# Altium integrated library Linear Technology Power Management Switching Regulator LTC1174-LTC3901.IntLib: 2647 symbols (part 62 of 364)
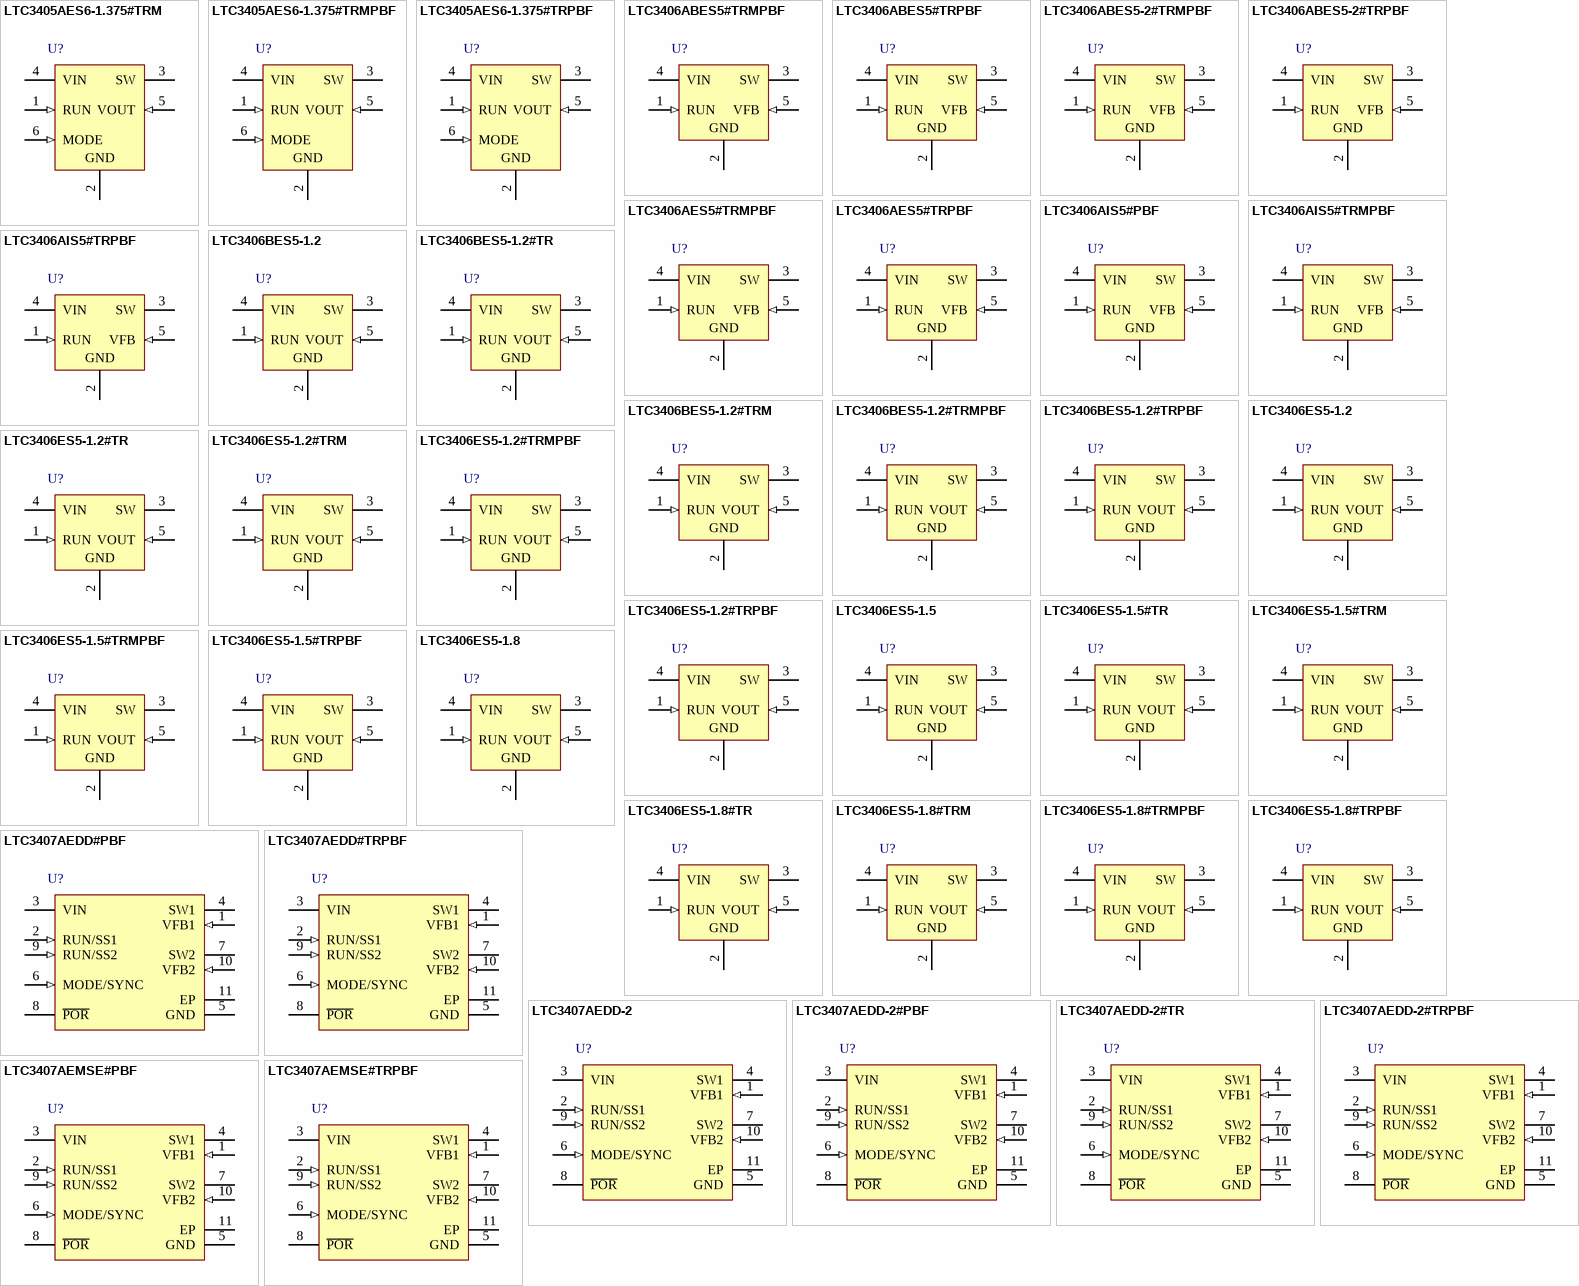
[diagram p147: symbols LTC3405AES6-1.375#TRM to LTC3407AEMSE#TRPBF]

## LTC3407AEDD-2
designator U?
Dual Synchronous 800 mA, 2.25 MHz Step-Down DC/DC Regulator, 10-pin SON (DD-10), -40 to 85 degC; Manufacturer: Linear Technology; PartNumber: LTC3407AEDD-2; Number of Outputs: 2; PackageVersion: Rev. C, 06/2010; PackageReference: DD-10; PackageDescription: 10-Pin Plastic DFN, Body 3 x 3 mm, Pitch 0.5 mm; RoHS: FALSE; Mounting Technology: Surface Mount; Code_JEDEC: MO-229; ComponentLink1Description: Manufacturer URL; ComponentLink1URL: http://www.linear.com/; ComponentLink2Description: Datasheet; ComponentLink2URL: http://cds.linear.com/docs/en/datasheet/3407a2f.pdf; ComponentLink3Description: Package Specification; ComponentLink3URL: http://cds.linear.com/docs/en/packaging/DFN_10_05-08-1699.pdf
footprint LT-DD-10_V (SON, 10-Leads, Body 3x3mm, Pitch 0.5mm, Thermal Pad 2.38x1.65mm)
pins: 1 VFB1 (in) "Output Feedback. Receives the feedback voltage from the external resistive divider across the output. Nominal voltage for this pin is 0.6V.", 2 RUN/SS1 (in) "Regulator 1 Enable and Soft-Start Input. Forcing this pin to VIN enables regulator 1, while forcing it to GND causes regulator 1 to shut down. Connect external RC-network with desired time-constant to enable softstart (See Datasheet)", 3 VIN (power) "Main Power Supply. Must be closely decoupled to GND.", 4 SW1 (power) "Regulator 1 Switch Node Connection to the Inductor. This pin swings from VIN to GND", 5 GND (power) "Main Ground. Connect to the (-) terminal of COUT, and (-) terminal of CIN.", 6 MODE/SYNC (in) "Combination Mode Selection and Oscillator Synchronization. This pin controls the operation of the device. When tied to VIN or GND, Burst Mode operation or pulse skipping mode is selected, respectively. Do not float this pin. (See Datasheet)", 7 SW2 (power) "Regulator 2 Switch Node Connection to the Inductor. This pin swings from VIN to GND.", 8 ~{POR} (oc) "Power-On Reset. This common-drain logic output is pulled to GND when the output voltage is not within +/-8.5% of regulation and goes high after 2^16 clock cycles when both channels are within regulation.", 9 RUN/SS2 (in) "Regulator 2 Enable and Soft-Start Input. Forcing this pin to VIN enables regulator 2, while forcing it to GND causes regulator 2 to shut down. Connect external RC-Network with desired time-constant to enable softstart (See Datasheet)", 10 VFB2 (in) "Output Feedback. Receives the feedback voltage from the external resistive divider across the output. Nominal voltage for this pin is 0.6V.", 11 EP (power) "Power Ground. Connect to the (-) terminal of COUT, and (-) terminal of CIN. Must be soldered to electrical ground on PCB."

## LTC3407AEDD-2#PBF
designator U?
Dual Synchronous 800 mA, 2.25 MHz Step-Down DC/DC Regulator, 10-pin SON (DD-10), -40 to 85 degC, Pb-Free; Manufacturer: Linear Technology; PartNumber: LTC3407AEDD-2#PBF; Number of Outputs: 2; PackageVersion: Rev. C, 06/2010; PackageReference: DD-10; PackageDescription: 10-Pin Plastic DFN, Body 3 x 3 mm, Pitch 0.5 mm; Supplier 1: Digi-Key; Supplier Part Number 1: LTC3407AEDD-2#PBF-ND; Supplier 2: Farnell; Supplier Part Number 2: 2295029; Supplier 3: Newark; Supplier Part Number 3: 56M7577; RoHS: TRUE; Mounting Technology: Surface Mount; Code_JEDEC: MO-229; ComponentLink1Description: Manufacturer URL; ComponentLink1URL: http://www.linear.com/; ComponentLink2Description: Datasheet; ComponentLink2URL: http://cds.linear.com/docs/en/datasheet/3407a2f.pdf; ComponentLink3Description: Package Specification; ComponentLink3URL: http://cds.linear.com/docs/en/packaging/DFN_10_05-08-1699.pdf
footprint LT-DD-10_V (SON, 10-Leads, Body 3x3mm, Pitch 0.5mm, Thermal Pad 2.38x1.65mm)
pins: 1 VFB1 (in) "Output Feedback. Receives the feedback voltage from the external resistive divider across the output. Nominal voltage for this pin is 0.6V.", 2 RUN/SS1 (in) "Regulator 1 Enable and Soft-Start Input. Forcing this pin to VIN enables regulator 1, while forcing it to GND causes regulator 1 to shut down. Connect external RC-network with desired time-constant to enable softstart (See Datasheet)", 3 VIN (power) "Main Power Supply. Must be closely decoupled to GND.", 4 SW1 (power) "Regulator 1 Switch Node Connection to the Inductor. This pin swings from VIN to GND", 5 GND (power) "Main Ground. Connect to the (-) terminal of COUT, and (-) terminal of CIN.", 6 MODE/SYNC (in) "Combination Mode Selection and Oscillator Synchronization. This pin controls the operation of the device. When tied to VIN or GND, Burst Mode operation or pulse skipping mode is selected, respectively. Do not float this pin. (See Datasheet)", 7 SW2 (power) "Regulator 2 Switch Node Connection to the Inductor. This pin swings from VIN to GND.", 8 ~{POR} (oc) "Power-On Reset. This common-drain logic output is pulled to GND when the output voltage is not within +/-8.5% of regulation and goes high after 2^16 clock cycles when both channels are within regulation.", 9 RUN/SS2 (in) "Regulator 2 Enable and Soft-Start Input. Forcing this pin to VIN enables regulator 2, while forcing it to GND causes regulator 2 to shut down. Connect external RC-Network with desired time-constant to enable softstart (See Datasheet)", 10 VFB2 (in) "Output Feedback. Receives the feedback voltage from the external resistive divider across the output. Nominal voltage for this pin is 0.6V.", 11 EP (power) "Power Ground. Connect to the (-) terminal of COUT, and (-) terminal of CIN. Must be soldered to electrical ground on PCB."

## LTC3407AEDD-2#TR
designator U?
Dual Synchronous 800 mA, 2.25 MHz Step-Down DC/DC Regulator, 10-pin SON (DD-10), -40 to 85 degC, Tape and Reel; Manufacturer: Linear Technology; PartNumber: LTC3407AEDD-2#TR; Number of Outputs: 2; PackageVersion: Rev. C, 06/2010; PackageReference: DD-10; PackageDescription: 10-Pin Plastic DFN, Body 3 x 3 mm, Pitch 0.5 mm; Packing: Tape and Reel; RoHS: FALSE; Mounting Technology: Surface Mount; Code_JEDEC: MO-229; ComponentLink1Description: Manufacturer URL; ComponentLink1URL: http://www.linear.com/; ComponentLink2Description: Datasheet; ComponentLink2URL: http://cds.linear.com/docs/en/datasheet/3407a2f.pdf; ComponentLink3Description: Package Specification; ComponentLink3URL: http://cds.linear.com/docs/en/packaging/DFN_10_05-08-1699.pdf
footprint LT-DD-10_V (SON, 10-Leads, Body 3x3mm, Pitch 0.5mm, Thermal Pad 2.38x1.65mm)
pins: 1 VFB1 (in) "Output Feedback. Receives the feedback voltage from the external resistive divider across the output. Nominal voltage for this pin is 0.6V.", 2 RUN/SS1 (in) "Regulator 1 Enable and Soft-Start Input. Forcing this pin to VIN enables regulator 1, while forcing it to GND causes regulator 1 to shut down. Connect external RC-network with desired time-constant to enable softstart (See Datasheet)", 3 VIN (power) "Main Power Supply. Must be closely decoupled to GND.", 4 SW1 (power) "Regulator 1 Switch Node Connection to the Inductor. This pin swings from VIN to GND", 5 GND (power) "Main Ground. Connect to the (-) terminal of COUT, and (-) terminal of CIN.", 6 MODE/SYNC (in) "Combination Mode Selection and Oscillator Synchronization. This pin controls the operation of the device. When tied to VIN or GND, Burst Mode operation or pulse skipping mode is selected, respectively. Do not float this pin. (See Datasheet)", 7 SW2 (power) "Regulator 2 Switch Node Connection to the Inductor. This pin swings from VIN to GND.", 8 ~{POR} (oc) "Power-On Reset. This common-drain logic output is pulled to GND when the output voltage is not within +/-8.5% of regulation and goes high after 2^16 clock cycles when both channels are within regulation.", 9 RUN/SS2 (in) "Regulator 2 Enable and Soft-Start Input. Forcing this pin to VIN enables regulator 2, while forcing it to GND causes regulator 2 to shut down. Connect external RC-Network with desired time-constant to enable softstart (See Datasheet)", 10 VFB2 (in) "Output Feedback. Receives the feedback voltage from the external resistive divider across the output. Nominal voltage for this pin is 0.6V.", 11 EP (power) "Power Ground. Connect to the (-) terminal of COUT, and (-) terminal of CIN. Must be soldered to electrical ground on PCB."

## LTC3407AEDD-2#TRPBF
designator U?
Dual Synchronous 800 mA, 2.25 MHz Step-Down DC/DC Regulator, 10-pin SON (DD-10), -40 to 85 degC, Pb-Free, Tape and Reel; Manufacturer: Linear Technology; PartNumber: LTC3407AEDD-2#TRPBF; Number of Outputs: 2; PackageVersion: Rev. C, 06/2010; PackageReference: DD-10; PackageDescription: 10-Pin Plastic DFN, Body 3 x 3 mm, Pitch 0.5 mm; Supplier 1: Digi-Key; Supplier Part Number 1: LTC3407AEDD-2#TRPBF-ND; Packing: Tape and Reel; RoHS: TRUE; Mounting Technology: Surface Mount; Code_JEDEC: MO-229; ComponentLink1Description: Manufacturer URL; ComponentLink1URL: http://www.linear.com/; ComponentLink2Description: Datasheet; ComponentLink2URL: http://cds.linear.com/docs/en/datasheet/3407a2f.pdf; ComponentLink3Description: Package Specification; ComponentLink3URL: http://cds.linear.com/docs/en/packaging/DFN_10_05-08-1699.pdf
footprint LT-DD-10_V (SON, 10-Leads, Body 3x3mm, Pitch 0.5mm, Thermal Pad 2.38x1.65mm)
pins: 1 VFB1 (in) "Output Feedback. Receives the feedback voltage from the external resistive divider across the output. Nominal voltage for this pin is 0.6V.", 2 RUN/SS1 (in) "Regulator 1 Enable and Soft-Start Input. Forcing this pin to VIN enables regulator 1, while forcing it to GND causes regulator 1 to shut down. Connect external RC-network with desired time-constant to enable softstart (See Datasheet)", 3 VIN (power) "Main Power Supply. Must be closely decoupled to GND.", 4 SW1 (power) "Regulator 1 Switch Node Connection to the Inductor. This pin swings from VIN to GND", 5 GND (power) "Main Ground. Connect to the (-) terminal of COUT, and (-) terminal of CIN.", 6 MODE/SYNC (in) "Combination Mode Selection and Oscillator Synchronization. This pin controls the operation of the device. When tied to VIN or GND, Burst Mode operation or pulse skipping mode is selected, respectively. Do not float this pin. (See Datasheet)", 7 SW2 (power) "Regulator 2 Switch Node Connection to the Inductor. This pin swings from VIN to GND.", 8 ~{POR} (oc) "Power-On Reset. This common-drain logic output is pulled to GND when the output voltage is not within +/-8.5% of regulation and goes high after 2^16 clock cycles when both channels are within regulation.", 9 RUN/SS2 (in) "Regulator 2 Enable and Soft-Start Input. Forcing this pin to VIN enables regulator 2, while forcing it to GND causes regulator 2 to shut down. Connect external RC-Network with desired time-constant to enable softstart (See Datasheet)", 10 VFB2 (in) "Output Feedback. Receives the feedback voltage from the external resistive divider across the output. Nominal voltage for this pin is 0.6V.", 11 EP (power) "Power Ground. Connect to the (-) terminal of COUT, and (-) terminal of CIN. Must be soldered to electrical ground on PCB."

## LTC3407AEMSE#PBF
designator U?
Dual Synchronous 600 mA, 1.5 MHz Step-Down DC/DC Regulator, 10-pin SOP (MSE-10-EDP), -40 to 85 degC, Pb-Free; Manufacturer: Linear Technology; PartNumber: LTC3407AEMSE#PBF; Frequency Sync Range: 1.5MHz; Number of Outputs: 2; DatasheetVersion: Rev. A; PackageVersion: Rev. C, 08/2009; PackageReference: MSE-10; PackageDescription: 10-Pin Plastic MSOP, Exposed Die Pad, Body 3 x 3 mm, Pitch 0.5 mm; Supplier 1: Digi-Key; Supplier Part Number 1: LTC3407AEMSE#PBF-ND; Supplier 2: Farnell; Supplier Part Number 2: 2295030; Supplier 3: Newark; Supplier Part Number 3: 56M7586; RoHS: TRUE; Mounting Technology: Surface Mount; ComponentLink1Description: Manufacturer URL; ComponentLink1URL: http://www.linear.com/; ComponentLink2Description: Datasheet; ComponentLink2URL: http://cds.linear.com/docs/en/datasheet/3407Afa.pdf; ComponentLink3Description: Package Specification; ComponentLink3URL: http://cds.linear.com/docs/en/datasheet/3481fc.pdf
footprint LT-MSE-10-EDP-2060x1830TP_N (SOP, 10-Leads, Body 3.1x3.1mm, Pitch 0.5mm, Thermal Pad 2.17x1.94mm, IPC Medium Density)
footprint LT-MSE-10-EDP-2060x1830TP_L (SOP, 10-Leads, Body 3.1x3.1mm, Pitch 0.5mm, Thermal Pad 2.17x1.94mm, IPC High Density)
footprint LT-MSE-10-EDP-2060x1830TP_M (SOP, 10-Leads, Body 3.1x3.1mm, Pitch 0.5mm, Thermal Pad 2.17x1.94mm, IPC Low Density)
pins: 1 VFB1 (in) "Output Feedback. Receives the feedback voltage from the external resistive divider across the output. Nominal voltage for this pin is 0.6V.", 2 RUN/SS1 (in) "Regulator 1 Enable and Soft-Start Input. Forcing this pin to VIN enables regulator 1, while forcing it to GND causes regulator 1 to shut down. Connect external RC-network with desired time-constant to enable softstart (See Datasheet)", 3 VIN (power) "Main Power Supply. Must be closely decoupled to GND.", 4 SW1 (power) "Regulator 1 Switch Node Connection to the Inductor. This pin swings from VIN to GND", 5 GND (power) "Main Ground. Connect to the (-) terminal of COUT, and (-) terminal of CIN.", 6 MODE/SYNC (in) "Combination Mode Selection and Oscillator Synchronization. This pin controls the operation of the device. When tied to VIN or GND, Burst Mode operation or pulse skipping mode is selected, respectively. Do not float this pin. (See Datasheet)", 7 SW2 (power) "Regulator 2 Switch Node Connection to the Inductor. This pin swings from VIN to GND.", 8 ~{POR} (oc) "Power-On Reset. This common-drain logic output is pulled to GND when the output voltage is not within +/-8.5% of regulation and goes high after 2^16 clock cycles when both channels are within regulation.", 9 RUN/SS2 (in) "Regulator 2 Enable and Soft-Start Input. Forcing this pin to VIN enables regulator 2, while forcing it to GND causes regulator 2 to shut down. Connect external RC-Network with desired time-constant to enable softstart (See Datasheet)", 10 VFB2 (in) "Output Feedback. Receives the feedback voltage from the external resistive divider across the output. Nominal voltage for this pin is 0.6V.", 11 EP (power) "Power Ground. Connect to the (-) terminal of COUT, and (-) terminal of CIN. Must be soldered to electrical ground on PCB."

## LTC3407AEMSE#TRPBF
designator U?
Dual Synchronous 600 mA, 1.5 MHz Step-Down DC/DC Regulator, 10-pin SOP (MSE-10-EDP), -40 to 85 degC, Pb-Free, Tape and Reel; Manufacturer: Linear Technology; PartNumber: LTC3407AEMSE#TRPBF; Frequency Sync Range: 1.5MHz; Number of Outputs: 2; DatasheetVersion: Rev. A; PackageVersion: Rev. C, 08/2009; PackageReference: MSE-10; PackageDescription: 10-Pin Plastic MSOP, Exposed Die Pad, Body 3 x 3 mm, Pitch 0.5 mm; Supplier 1: Digi-Key; Supplier Part Number 1: LTC3407AEMSE#TRPBF-ND; Packing: Tape and Reel; RoHS: TRUE; Mounting Technology: Surface Mount; ComponentLink1Description: Manufacturer URL; ComponentLink1URL: http://www.linear.com/; ComponentLink2Description: Datasheet; ComponentLink2URL: http://cds.linear.com/docs/en/datasheet/3407Afa.pdf; ComponentLink3Description: Package Specification; ComponentLink3URL: http://cds.linear.com/docs/en/datasheet/3481fc.pdf
footprint LT-MSE-10-EDP-2060x1830TP_N (SOP, 10-Leads, Body 3.1x3.1mm, Pitch 0.5mm, Thermal Pad 2.17x1.94mm, IPC Medium Density)
footprint LT-MSE-10-EDP-2060x1830TP_L (SOP, 10-Leads, Body 3.1x3.1mm, Pitch 0.5mm, Thermal Pad 2.17x1.94mm, IPC High Density)
footprint LT-MSE-10-EDP-2060x1830TP_M (SOP, 10-Leads, Body 3.1x3.1mm, Pitch 0.5mm, Thermal Pad 2.17x1.94mm, IPC Low Density)
pins: 1 VFB1 (in) "Output Feedback. Receives the feedback voltage from the external resistive divider across the output. Nominal voltage for this pin is 0.6V.", 2 RUN/SS1 (in) "Regulator 1 Enable and Soft-Start Input. Forcing this pin to VIN enables regulator 1, while forcing it to GND causes regulator 1 to shut down. Connect external RC-network with desired time-constant to enable softstart (See Datasheet)", 3 VIN (power) "Main Power Supply. Must be closely decoupled to GND.", 4 SW1 (power) "Regulator 1 Switch Node Connection to the Inductor. This pin swings from VIN to GND", 5 GND (power) "Main Ground. Connect to the (-) terminal of COUT, and (-) terminal of CIN.", 6 MODE/SYNC (in) "Combination Mode Selection and Oscillator Synchronization. This pin controls the operation of the device. When tied to VIN or GND, Burst Mode operation or pulse skipping mode is selected, respectively. Do not float this pin. (See Datasheet)", 7 SW2 (power) "Regulator 2 Switch Node Connection to the Inductor. This pin swings from VIN to GND.", 8 ~{POR} (oc) "Power-On Reset. This common-drain logic output is pulled to GND when the output voltage is not within +/-8.5% of regulation and goes high after 2^16 clock cycles when both channels are within regulation.", 9 RUN/SS2 (in) "Regulator 2 Enable and Soft-Start Input. Forcing this pin to VIN enables regulator 2, while forcing it to GND causes regulator 2 to shut down. Connect external RC-Network with desired time-constant to enable softstart (See Datasheet)", 10 VFB2 (in) "Output Feedback. Receives the feedback voltage from the external resistive divider across the output. Nominal voltage for this pin is 0.6V.", 11 EP (power) "Power Ground. Connect to the (-) terminal of COUT, and (-) terminal of CIN. Must be soldered to electrical ground on PCB."

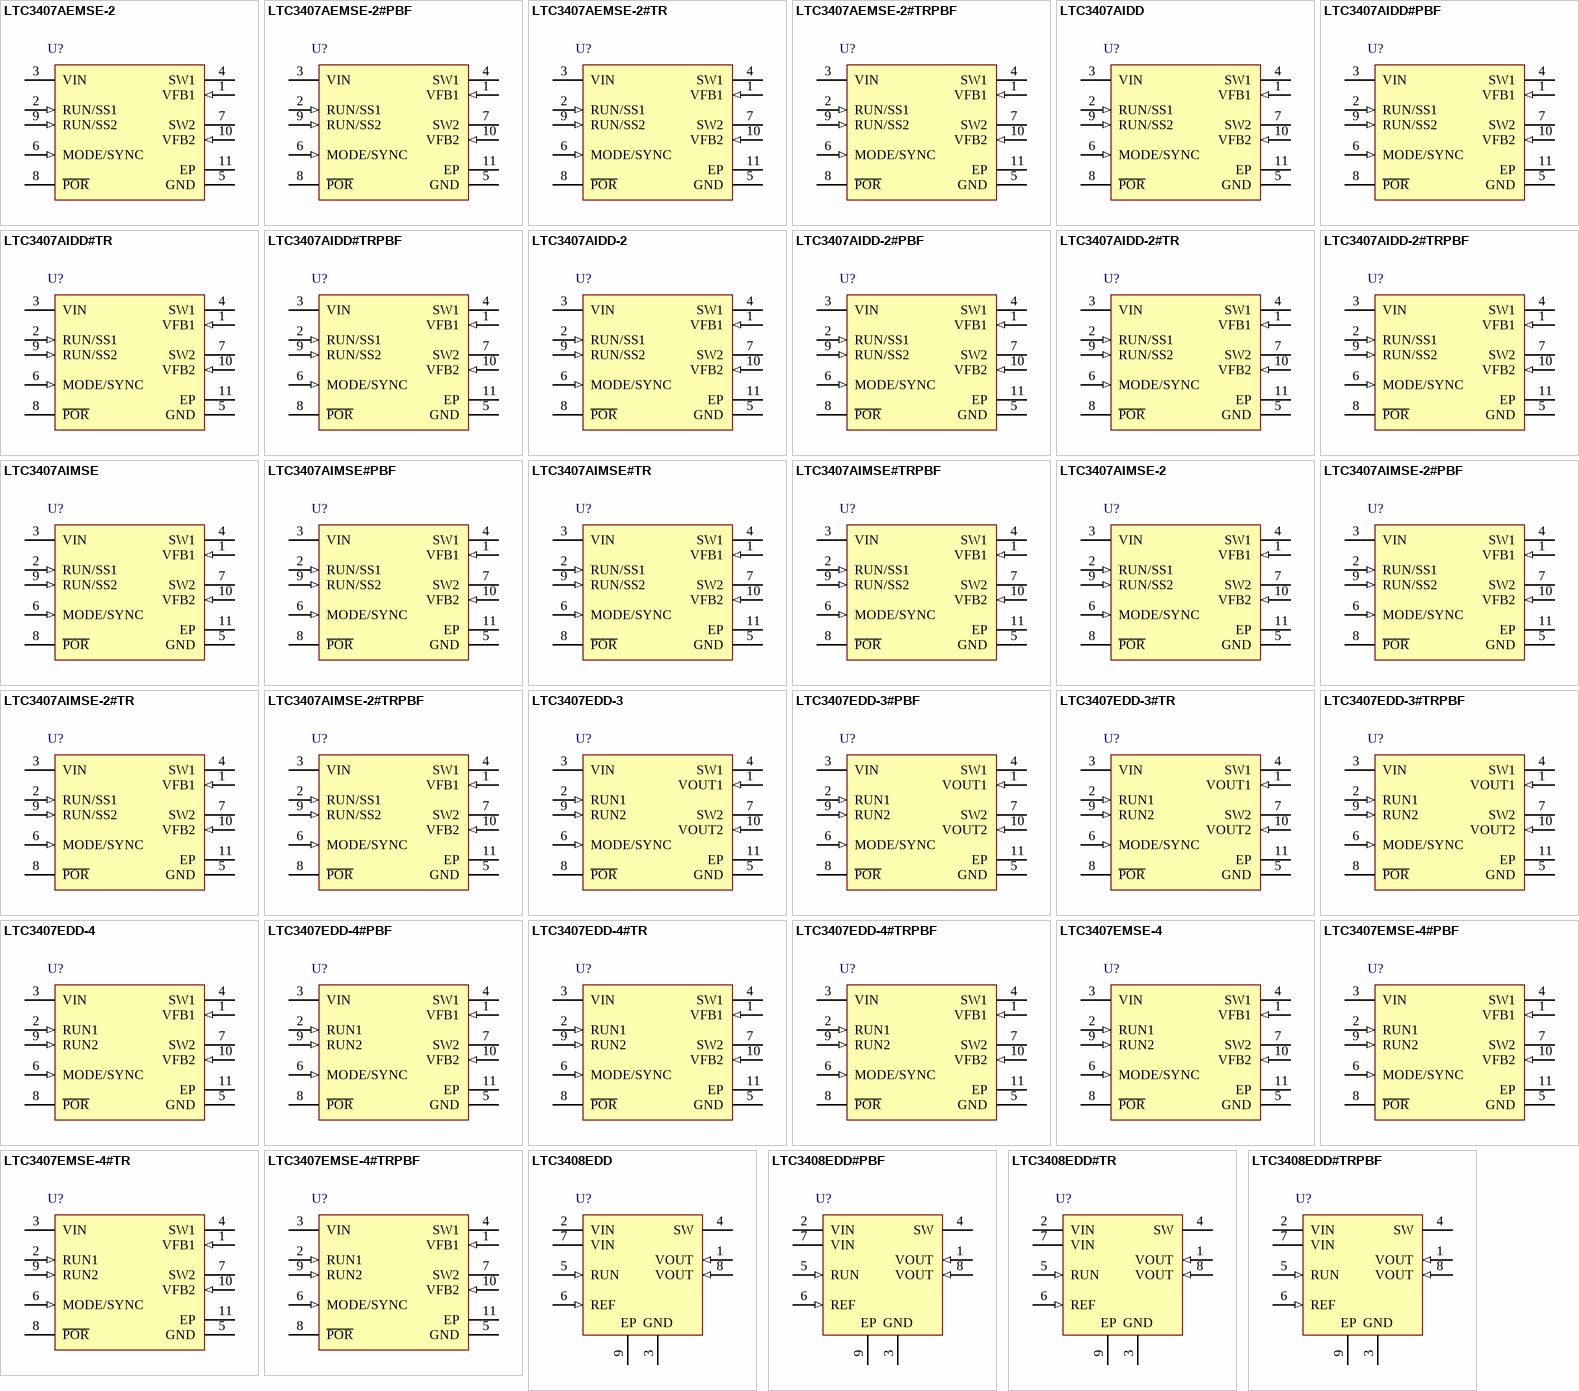
[diagram p19: symbols LTC3407AEMSE-2 to LTC3408EDD#TRPBF]

## LTC3407AEMSE-2
designator U?
Dual Synchronous 800 mA, 2.25 MHz Step-Down DC/DC Regulator, 10-pin SOP (MSE-10-EDP), -40 to 85 degC; Manufacturer: Linear Technology; PartNumber: LTC3407AEMSE-2; Number of Outputs: 2; PackageVersion: Rev. C, 08/2009; PackageReference: MSE-10; PackageDescription: 10-Pin Plastic MSOP, Exposed Die Pad, Body 3 x 3 mm, Pitch 0.5 mm; RoHS: FALSE; Mounting Technology: Surface Mount; ComponentLink1Description: Manufacturer URL; ComponentLink1URL: http://www.linear.com/; ComponentLink2Description: Datasheet; ComponentLink2URL: http://cds.linear.com/docs/en/datasheet/3407a2f.pdf; ComponentLink3Description: Package Specification; ComponentLink3URL: http://cds.linear.com/docs/en/datasheet/3481fc.pdf
footprint LT-MSE-10-EDP-2060x1830TP_N (SOP, 10-Leads, Body 3.1x3.1mm, Pitch 0.5mm, Thermal Pad 2.17x1.94mm, IPC Medium Density)
footprint LT-MSE-10-EDP-2060x1830TP_L (SOP, 10-Leads, Body 3.1x3.1mm, Pitch 0.5mm, Thermal Pad 2.17x1.94mm, IPC High Density)
footprint LT-MSE-10-EDP-2060x1830TP_M (SOP, 10-Leads, Body 3.1x3.1mm, Pitch 0.5mm, Thermal Pad 2.17x1.94mm, IPC Low Density)
pins: 1 VFB1 (in) "Output Feedback. Receives the feedback voltage from the external resistive divider across the output. Nominal voltage for this pin is 0.6V.", 2 RUN/SS1 (in) "Regulator 1 Enable and Soft-Start Input. Forcing this pin to VIN enables regulator 1, while forcing it to GND causes regulator 1 to shut down. Connect external RC-network with desired time-constant to enable softstart (See Datasheet)", 3 VIN (power) "Main Power Supply. Must be closely decoupled to GND.", 4 SW1 (power) "Regulator 1 Switch Node Connection to the Inductor. This pin swings from VIN to GND", 5 GND (power) "Main Ground. Connect to the (-) terminal of COUT, and (-) terminal of CIN.", 6 MODE/SYNC (in) "Combination Mode Selection and Oscillator Synchronization. This pin controls the operation of the device. When tied to VIN or GND, Burst Mode operation or pulse skipping mode is selected, respectively. Do not float this pin. (See Datasheet)", 7 SW2 (power) "Regulator 2 Switch Node Connection to the Inductor. This pin swings from VIN to GND.", 8 ~{POR} (oc) "Power-On Reset. This common-drain logic output is pulled to GND when the output voltage is not within +/-8.5% of regulation and goes high after 2^16 clock cycles when both channels are within regulation.", 9 RUN/SS2 (in) "Regulator 2 Enable and Soft-Start Input. Forcing this pin to VIN enables regulator 2, while forcing it to GND causes regulator 2 to shut down. Connect external RC-Network with desired time-constant to enable softstart (See Datasheet)", 10 VFB2 (in) "Output Feedback. Receives the feedback voltage from the external resistive divider across the output. Nominal voltage for this pin is 0.6V.", 11 EP (power) "Power Ground. Connect to the (-) terminal of COUT, and (-) terminal of CIN. Must be soldered to electrical ground on PCB."

## LTC3407AEMSE-2#PBF
designator U?
Dual Synchronous 800 mA, 2.25 MHz Step-Down DC/DC Regulator, 10-pin SOP (MSE-10-EDP), -40 to 85 degC, Pb-Free; Manufacturer: Linear Technology; PartNumber: LTC3407AEMSE-2#PBF; Number of Outputs: 2; PackageVersion: Rev. C, 08/2009; PackageReference: MSE-10; PackageDescription: 10-Pin Plastic MSOP, Exposed Die Pad, Body 3 x 3 mm, Pitch 0.5 mm; Supplier 1: Digi-Key; Supplier Part Number 1: LTC3407AEMSE-2#PBF-ND; Supplier 2: Farnell; Supplier Part Number 2: 2295031; Supplier 3: Newark; Supplier Part Number 3: 56M7583; RoHS: TRUE; Mounting Technology: Surface Mount; ComponentLink1Description: Manufacturer URL; ComponentLink1URL: http://www.linear.com/; ComponentLink2Description: Datasheet; ComponentLink2URL: http://cds.linear.com/docs/en/datasheet/3407a2f.pdf; ComponentLink3Description: Package Specification; ComponentLink3URL: http://cds.linear.com/docs/en/datasheet/3481fc.pdf
footprint LT-MSE-10-EDP-2060x1830TP_N (SOP, 10-Leads, Body 3.1x3.1mm, Pitch 0.5mm, Thermal Pad 2.17x1.94mm, IPC Medium Density)
footprint LT-MSE-10-EDP-2060x1830TP_L (SOP, 10-Leads, Body 3.1x3.1mm, Pitch 0.5mm, Thermal Pad 2.17x1.94mm, IPC High Density)
footprint LT-MSE-10-EDP-2060x1830TP_M (SOP, 10-Leads, Body 3.1x3.1mm, Pitch 0.5mm, Thermal Pad 2.17x1.94mm, IPC Low Density)
pins: 1 VFB1 (in) "Output Feedback. Receives the feedback voltage from the external resistive divider across the output. Nominal voltage for this pin is 0.6V.", 2 RUN/SS1 (in) "Regulator 1 Enable and Soft-Start Input. Forcing this pin to VIN enables regulator 1, while forcing it to GND causes regulator 1 to shut down. Connect external RC-network with desired time-constant to enable softstart (See Datasheet)", 3 VIN (power) "Main Power Supply. Must be closely decoupled to GND.", 4 SW1 (power) "Regulator 1 Switch Node Connection to the Inductor. This pin swings from VIN to GND", 5 GND (power) "Main Ground. Connect to the (-) terminal of COUT, and (-) terminal of CIN.", 6 MODE/SYNC (in) "Combination Mode Selection and Oscillator Synchronization. This pin controls the operation of the device. When tied to VIN or GND, Burst Mode operation or pulse skipping mode is selected, respectively. Do not float this pin. (See Datasheet)", 7 SW2 (power) "Regulator 2 Switch Node Connection to the Inductor. This pin swings from VIN to GND.", 8 ~{POR} (oc) "Power-On Reset. This common-drain logic output is pulled to GND when the output voltage is not within +/-8.5% of regulation and goes high after 2^16 clock cycles when both channels are within regulation.", 9 RUN/SS2 (in) "Regulator 2 Enable and Soft-Start Input. Forcing this pin to VIN enables regulator 2, while forcing it to GND causes regulator 2 to shut down. Connect external RC-Network with desired time-constant to enable softstart (See Datasheet)", 10 VFB2 (in) "Output Feedback. Receives the feedback voltage from the external resistive divider across the output. Nominal voltage for this pin is 0.6V.", 11 EP (power) "Power Ground. Connect to the (-) terminal of COUT, and (-) terminal of CIN. Must be soldered to electrical ground on PCB."

## LTC3407AEMSE-2#TR
designator U?
Dual Synchronous 800 mA, 2.25 MHz Step-Down DC/DC Regulator, 10-pin SOP (MSE-10-EDP), -40 to 85 degC, Tape and Reel; Manufacturer: Linear Technology; PartNumber: LTC3407AEMSE-2#TR; Number of Outputs: 2; PackageVersion: Rev. C, 08/2009; PackageReference: MSE-10; PackageDescription: 10-Pin Plastic MSOP, Exposed Die Pad, Body 3 x 3 mm, Pitch 0.5 mm; Packing: Tape and Reel; RoHS: FALSE; Mounting Technology: Surface Mount; ComponentLink1Description: Manufacturer URL; ComponentLink1URL: http://www.linear.com/; ComponentLink2Description: Datasheet; ComponentLink2URL: http://cds.linear.com/docs/en/datasheet/3407a2f.pdf; ComponentLink3Description: Package Specification; ComponentLink3URL: http://cds.linear.com/docs/en/datasheet/3481fc.pdf
footprint LT-MSE-10-EDP-2060x1830TP_N (SOP, 10-Leads, Body 3.1x3.1mm, Pitch 0.5mm, Thermal Pad 2.17x1.94mm, IPC Medium Density)
footprint LT-MSE-10-EDP-2060x1830TP_L (SOP, 10-Leads, Body 3.1x3.1mm, Pitch 0.5mm, Thermal Pad 2.17x1.94mm, IPC High Density)
footprint LT-MSE-10-EDP-2060x1830TP_M (SOP, 10-Leads, Body 3.1x3.1mm, Pitch 0.5mm, Thermal Pad 2.17x1.94mm, IPC Low Density)
pins: 1 VFB1 (in) "Output Feedback. Receives the feedback voltage from the external resistive divider across the output. Nominal voltage for this pin is 0.6V.", 2 RUN/SS1 (in) "Regulator 1 Enable and Soft-Start Input. Forcing this pin to VIN enables regulator 1, while forcing it to GND causes regulator 1 to shut down. Connect external RC-network with desired time-constant to enable softstart (See Datasheet)", 3 VIN (power) "Main Power Supply. Must be closely decoupled to GND.", 4 SW1 (power) "Regulator 1 Switch Node Connection to the Inductor. This pin swings from VIN to GND", 5 GND (power) "Main Ground. Connect to the (-) terminal of COUT, and (-) terminal of CIN.", 6 MODE/SYNC (in) "Combination Mode Selection and Oscillator Synchronization. This pin controls the operation of the device. When tied to VIN or GND, Burst Mode operation or pulse skipping mode is selected, respectively. Do not float this pin. (See Datasheet)", 7 SW2 (power) "Regulator 2 Switch Node Connection to the Inductor. This pin swings from VIN to GND.", 8 ~{POR} (oc) "Power-On Reset. This common-drain logic output is pulled to GND when the output voltage is not within +/-8.5% of regulation and goes high after 2^16 clock cycles when both channels are within regulation.", 9 RUN/SS2 (in) "Regulator 2 Enable and Soft-Start Input. Forcing this pin to VIN enables regulator 2, while forcing it to GND causes regulator 2 to shut down. Connect external RC-Network with desired time-constant to enable softstart (See Datasheet)", 10 VFB2 (in) "Output Feedback. Receives the feedback voltage from the external resistive divider across the output. Nominal voltage for this pin is 0.6V.", 11 EP (power) "Power Ground. Connect to the (-) terminal of COUT, and (-) terminal of CIN. Must be soldered to electrical ground on PCB."

## LTC3407AEMSE-2#TRPBF
designator U?
Dual Synchronous 800 mA, 2.25 MHz Step-Down DC/DC Regulator, 10-pin SOP (MSE-10-EDP), -40 to 85 degC, Pb-Free, Tape and Reel; Manufacturer: Linear Technology; PartNumber: LTC3407AEMSE-2#TRPBF; Number of Outputs: 2; PackageVersion: Rev. C, 08/2009; PackageReference: MSE-10; PackageDescription: 10-Pin Plastic MSOP, Exposed Die Pad, Body 3 x 3 mm, Pitch 0.5 mm; Supplier 1: Digi-Key; Supplier Part Number 1: LTC3407AEMSE-2#TRPBF-ND; Packing: Tape and Reel; RoHS: TRUE; Mounting Technology: Surface Mount; ComponentLink1Description: Manufacturer URL; ComponentLink1URL: http://www.linear.com/; ComponentLink2Description: Datasheet; ComponentLink2URL: http://cds.linear.com/docs/en/datasheet/3407a2f.pdf; ComponentLink3Description: Package Specification; ComponentLink3URL: http://cds.linear.com/docs/en/datasheet/3481fc.pdf
footprint LT-MSE-10-EDP-2060x1830TP_N (SOP, 10-Leads, Body 3.1x3.1mm, Pitch 0.5mm, Thermal Pad 2.17x1.94mm, IPC Medium Density)
footprint LT-MSE-10-EDP-2060x1830TP_L (SOP, 10-Leads, Body 3.1x3.1mm, Pitch 0.5mm, Thermal Pad 2.17x1.94mm, IPC High Density)
footprint LT-MSE-10-EDP-2060x1830TP_M (SOP, 10-Leads, Body 3.1x3.1mm, Pitch 0.5mm, Thermal Pad 2.17x1.94mm, IPC Low Density)
pins: 1 VFB1 (in) "Output Feedback. Receives the feedback voltage from the external resistive divider across the output. Nominal voltage for this pin is 0.6V.", 2 RUN/SS1 (in) "Regulator 1 Enable and Soft-Start Input. Forcing this pin to VIN enables regulator 1, while forcing it to GND causes regulator 1 to shut down. Connect external RC-network with desired time-constant to enable softstart (See Datasheet)", 3 VIN (power) "Main Power Supply. Must be closely decoupled to GND.", 4 SW1 (power) "Regulator 1 Switch Node Connection to the Inductor. This pin swings from VIN to GND", 5 GND (power) "Main Ground. Connect to the (-) terminal of COUT, and (-) terminal of CIN.", 6 MODE/SYNC (in) "Combination Mode Selection and Oscillator Synchronization. This pin controls the operation of the device. When tied to VIN or GND, Burst Mode operation or pulse skipping mode is selected, respectively. Do not float this pin. (See Datasheet)", 7 SW2 (power) "Regulator 2 Switch Node Connection to the Inductor. This pin swings from VIN to GND.", 8 ~{POR} (oc) "Power-On Reset. This common-drain logic output is pulled to GND when the output voltage is not within +/-8.5% of regulation and goes high after 2^16 clock cycles when both channels are within regulation.", 9 RUN/SS2 (in) "Regulator 2 Enable and Soft-Start Input. Forcing this pin to VIN enables regulator 2, while forcing it to GND causes regulator 2 to shut down. Connect external RC-Network with desired time-constant to enable softstart (See Datasheet)", 10 VFB2 (in) "Output Feedback. Receives the feedback voltage from the external resistive divider across the output. Nominal voltage for this pin is 0.6V.", 11 EP (power) "Power Ground. Connect to the (-) terminal of COUT, and (-) terminal of CIN. Must be soldered to electrical ground on PCB."

## LTC3407AIDD
designator U?
Dual Synchronous 600 mA, 1.5 MHz Step-Down DC/DC Regulator, 10-pin SON (DD-10), -40 to 125 degC; Manufacturer: Linear Technology; PartNumber: LTC3407AIDD; Frequency Sync Range: 1.5MHz; Number of Outputs: 2; DatasheetVersion: Rev. A; PackageVersion: Rev. C, 06/2010; PackageReference: DD-10; PackageDescription: 10-Pin Plastic DFN, Body 3 x 3 mm, Pitch 0.5 mm; RoHS: FALSE; Mounting Technology: Surface Mount; Code_JEDEC: MO-229; ComponentLink1Description: Manufacturer URL; ComponentLink1URL: http://www.linear.com/; ComponentLink2Description: Datasheet; ComponentLink2URL: http://cds.linear.com/docs/en/datasheet/3407Afa.pdf; ComponentLink3Description: Package Specification; ComponentLink3URL: http://cds.linear.com/docs/en/packaging/DFN_10_05-08-1699.pdf
footprint LT-DD-10_V (SON, 10-Leads, Body 3x3mm, Pitch 0.5mm, Thermal Pad 2.38x1.65mm)
pins: 1 VFB1 (in) "Output Feedback. Receives the feedback voltage from the external resistive divider across the output. Nominal voltage for this pin is 0.6V.", 2 RUN/SS1 (in) "Regulator 1 Enable and Soft-Start Input. Forcing this pin to VIN enables regulator 1, while forcing it to GND causes regulator 1 to shut down. Connect external RC-network with desired time-constant to enable softstart (See Datasheet)", 3 VIN (power) "Main Power Supply. Must be closely decoupled to GND.", 4 SW1 (power) "Regulator 1 Switch Node Connection to the Inductor. This pin swings from VIN to GND", 5 GND (power) "Main Ground. Connect to the (-) terminal of COUT, and (-) terminal of CIN.", 6 MODE/SYNC (in) "Combination Mode Selection and Oscillator Synchronization. This pin controls the operation of the device. When tied to VIN or GND, Burst Mode operation or pulse skipping mode is selected, respectively. Do not float this pin. (See Datasheet)", 7 SW2 (power) "Regulator 2 Switch Node Connection to the Inductor. This pin swings from VIN to GND.", 8 ~{POR} (oc) "Power-On Reset. This common-drain logic output is pulled to GND when the output voltage is not within +/-8.5% of regulation and goes high after 2^16 clock cycles when both channels are within regulation.", 9 RUN/SS2 (in) "Regulator 2 Enable and Soft-Start Input. Forcing this pin to VIN enables regulator 2, while forcing it to GND causes regulator 2 to shut down. Connect external RC-Network with desired time-constant to enable softstart (See Datasheet)", 10 VFB2 (in) "Output Feedback. Receives the feedback voltage from the external resistive divider across the output. Nominal voltage for this pin is 0.6V.", 11 EP (power) "Power Ground. Connect to the (-) terminal of COUT, and (-) terminal of CIN. Must be soldered to electrical ground on PCB."

## LTC3407AIDD#PBF
designator U?
Dual Synchronous 600 mA, 1.5 MHz Step-Down DC/DC Regulator, 10-pin SON (DD-10), -40 to 125 degC, Pb-Free; Manufacturer: Linear Technology; PartNumber: LTC3407AIDD#PBF; Frequency Sync Range: 1.5MHz; Number of Outputs: 2; DatasheetVersion: Rev. A; PackageVersion: Rev. C, 06/2010; PackageReference: DD-10; PackageDescription: 10-Pin Plastic DFN, Body 3 x 3 mm, Pitch 0.5 mm; Supplier 1: Digi-Key; Supplier Part Number 1: LTC3407AIDD#PBF-ND; RoHS: TRUE; Mounting Technology: Surface Mount; Code_JEDEC: MO-229; ComponentLink1Description: Manufacturer URL; ComponentLink1URL: http://www.linear.com/; ComponentLink2Description: Datasheet; ComponentLink2URL: http://cds.linear.com/docs/en/datasheet/3407Afa.pdf; ComponentLink3Description: Package Specification; ComponentLink3URL: http://cds.linear.com/docs/en/packaging/DFN_10_05-08-1699.pdf
footprint LT-DD-10_V (SON, 10-Leads, Body 3x3mm, Pitch 0.5mm, Thermal Pad 2.38x1.65mm)
pins: 1 VFB1 (in) "Output Feedback. Receives the feedback voltage from the external resistive divider across the output. Nominal voltage for this pin is 0.6V.", 2 RUN/SS1 (in) "Regulator 1 Enable and Soft-Start Input. Forcing this pin to VIN enables regulator 1, while forcing it to GND causes regulator 1 to shut down. Connect external RC-network with desired time-constant to enable softstart (See Datasheet)", 3 VIN (power) "Main Power Supply. Must be closely decoupled to GND.", 4 SW1 (power) "Regulator 1 Switch Node Connection to the Inductor. This pin swings from VIN to GND", 5 GND (power) "Main Ground. Connect to the (-) terminal of COUT, and (-) terminal of CIN.", 6 MODE/SYNC (in) "Combination Mode Selection and Oscillator Synchronization. This pin controls the operation of the device. When tied to VIN or GND, Burst Mode operation or pulse skipping mode is selected, respectively. Do not float this pin. (See Datasheet)", 7 SW2 (power) "Regulator 2 Switch Node Connection to the Inductor. This pin swings from VIN to GND.", 8 ~{POR} (oc) "Power-On Reset. This common-drain logic output is pulled to GND when the output voltage is not within +/-8.5% of regulation and goes high after 2^16 clock cycles when both channels are within regulation.", 9 RUN/SS2 (in) "Regulator 2 Enable and Soft-Start Input. Forcing this pin to VIN enables regulator 2, while forcing it to GND causes regulator 2 to shut down. Connect external RC-Network with desired time-constant to enable softstart (See Datasheet)", 10 VFB2 (in) "Output Feedback. Receives the feedback voltage from the external resistive divider across the output. Nominal voltage for this pin is 0.6V.", 11 EP (power) "Power Ground. Connect to the (-) terminal of COUT, and (-) terminal of CIN. Must be soldered to electrical ground on PCB."

## LTC3407AIDD#TR
designator U?
Dual Synchronous 600 mA, 1.5 MHz Step-Down DC/DC Regulator, 10-pin SON (DD-10), -40 to 125 degC, Tape and Reel; Manufacturer: Linear Technology; PartNumber: LTC3407AIDD#TR; Frequency Sync Range: 1.5MHz; Number of Outputs: 2; DatasheetVersion: Rev. A; PackageVersion: Rev. C, 06/2010; PackageReference: DD-10; PackageDescription: 10-Pin Plastic DFN, Body 3 x 3 mm, Pitch 0.5 mm; Packing: Tape and Reel; RoHS: FALSE; Mounting Technology: Surface Mount; Code_JEDEC: MO-229; ComponentLink1Description: Manufacturer URL; ComponentLink1URL: http://www.linear.com/; ComponentLink2Description: Datasheet; ComponentLink2URL: http://cds.linear.com/docs/en/datasheet/3407Afa.pdf; ComponentLink3Description: Package Specification; ComponentLink3URL: http://cds.linear.com/docs/en/packaging/DFN_10_05-08-1699.pdf
footprint LT-DD-10_V (SON, 10-Leads, Body 3x3mm, Pitch 0.5mm, Thermal Pad 2.38x1.65mm)
pins: 1 VFB1 (in) "Output Feedback. Receives the feedback voltage from the external resistive divider across the output. Nominal voltage for this pin is 0.6V.", 2 RUN/SS1 (in) "Regulator 1 Enable and Soft-Start Input. Forcing this pin to VIN enables regulator 1, while forcing it to GND causes regulator 1 to shut down. Connect external RC-network with desired time-constant to enable softstart (See Datasheet)", 3 VIN (power) "Main Power Supply. Must be closely decoupled to GND.", 4 SW1 (power) "Regulator 1 Switch Node Connection to the Inductor. This pin swings from VIN to GND", 5 GND (power) "Main Ground. Connect to the (-) terminal of COUT, and (-) terminal of CIN.", 6 MODE/SYNC (in) "Combination Mode Selection and Oscillator Synchronization. This pin controls the operation of the device. When tied to VIN or GND, Burst Mode operation or pulse skipping mode is selected, respectively. Do not float this pin. (See Datasheet)", 7 SW2 (power) "Regulator 2 Switch Node Connection to the Inductor. This pin swings from VIN to GND.", 8 ~{POR} (oc) "Power-On Reset. This common-drain logic output is pulled to GND when the output voltage is not within +/-8.5% of regulation and goes high after 2^16 clock cycles when both channels are within regulation.", 9 RUN/SS2 (in) "Regulator 2 Enable and Soft-Start Input. Forcing this pin to VIN enables regulator 2, while forcing it to GND causes regulator 2 to shut down. Connect external RC-Network with desired time-constant to enable softstart (See Datasheet)", 10 VFB2 (in) "Output Feedback. Receives the feedback voltage from the external resistive divider across the output. Nominal voltage for this pin is 0.6V.", 11 EP (power) "Power Ground. Connect to the (-) terminal of COUT, and (-) terminal of CIN. Must be soldered to electrical ground on PCB."

## LTC3407AIDD#TRPBF
designator U?
Dual Synchronous 600 mA, 1.5 MHz Step-Down DC/DC Regulator, 10-pin SON (DD-10), -40 to 125 degC, Pb-Free, Tape and Reel; Manufacturer: Linear Technology; PartNumber: LTC3407AIDD#TRPBF; Frequency Sync Range: 1.5MHz; Number of Outputs: 2; DatasheetVersion: Rev. A; PackageVersion: Rev. C, 06/2010; PackageReference: DD-10; PackageDescription: 10-Pin Plastic DFN, Body 3 x 3 mm, Pitch 0.5 mm; Supplier 1: Digi-Key; Supplier Part Number 1: LTC3407AIDD#TRPBF-ND; Packing: Tape and Reel; RoHS: TRUE; Mounting Technology: Surface Mount; Code_JEDEC: MO-229; ComponentLink1Description: Manufacturer URL; ComponentLink1URL: http://www.linear.com/; ComponentLink2Description: Datasheet; ComponentLink2URL: http://cds.linear.com/docs/en/datasheet/3407Afa.pdf; ComponentLink3Description: Package Specification; ComponentLink3URL: http://cds.linear.com/docs/en/packaging/DFN_10_05-08-1699.pdf
footprint LT-DD-10_V (SON, 10-Leads, Body 3x3mm, Pitch 0.5mm, Thermal Pad 2.38x1.65mm)
pins: 1 VFB1 (in) "Output Feedback. Receives the feedback voltage from the external resistive divider across the output. Nominal voltage for this pin is 0.6V.", 2 RUN/SS1 (in) "Regulator 1 Enable and Soft-Start Input. Forcing this pin to VIN enables regulator 1, while forcing it to GND causes regulator 1 to shut down. Connect external RC-network with desired time-constant to enable softstart (See Datasheet)", 3 VIN (power) "Main Power Supply. Must be closely decoupled to GND.", 4 SW1 (power) "Regulator 1 Switch Node Connection to the Inductor. This pin swings from VIN to GND", 5 GND (power) "Main Ground. Connect to the (-) terminal of COUT, and (-) terminal of CIN.", 6 MODE/SYNC (in) "Combination Mode Selection and Oscillator Synchronization. This pin controls the operation of the device. When tied to VIN or GND, Burst Mode operation or pulse skipping mode is selected, respectively. Do not float this pin. (See Datasheet)", 7 SW2 (power) "Regulator 2 Switch Node Connection to the Inductor. This pin swings from VIN to GND.", 8 ~{POR} (oc) "Power-On Reset. This common-drain logic output is pulled to GND when the output voltage is not within +/-8.5% of regulation and goes high after 2^16 clock cycles when both channels are within regulation.", 9 RUN/SS2 (in) "Regulator 2 Enable and Soft-Start Input. Forcing this pin to VIN enables regulator 2, while forcing it to GND causes regulator 2 to shut down. Connect external RC-Network with desired time-constant to enable softstart (See Datasheet)", 10 VFB2 (in) "Output Feedback. Receives the feedback voltage from the external resistive divider across the output. Nominal voltage for this pin is 0.6V.", 11 EP (power) "Power Ground. Connect to the (-) terminal of COUT, and (-) terminal of CIN. Must be soldered to electrical ground on PCB."

## LTC3407AIDD-2
designator U?
Dual Synchronous 800 mA, 2.25 MHz Step-Down DC/DC Regulator, 10-pin SON (DD-10), -40 to 125 degC; Manufacturer: Linear Technology; PartNumber: LTC3407AIDD-2; Number of Outputs: 2; PackageVersion: Rev. C, 06/2010; PackageReference: DD-10; PackageDescription: 10-Pin Plastic DFN, Body 3 x 3 mm, Pitch 0.5 mm; RoHS: FALSE; Mounting Technology: Surface Mount; Code_JEDEC: MO-229; ComponentLink1Description: Manufacturer URL; ComponentLink1URL: http://www.linear.com/; ComponentLink2Description: Datasheet; ComponentLink2URL: http://cds.linear.com/docs/en/datasheet/3407a2f.pdf; ComponentLink3Description: Package Specification; ComponentLink3URL: http://cds.linear.com/docs/en/packaging/DFN_10_05-08-1699.pdf
footprint LT-DD-10_V (SON, 10-Leads, Body 3x3mm, Pitch 0.5mm, Thermal Pad 2.38x1.65mm)
pins: 1 VFB1 (in) "Output Feedback. Receives the feedback voltage from the external resistive divider across the output. Nominal voltage for this pin is 0.6V.", 2 RUN/SS1 (in) "Regulator 1 Enable and Soft-Start Input. Forcing this pin to VIN enables regulator 1, while forcing it to GND causes regulator 1 to shut down. Connect external RC-network with desired time-constant to enable softstart (See Datasheet)", 3 VIN (power) "Main Power Supply. Must be closely decoupled to GND.", 4 SW1 (power) "Regulator 1 Switch Node Connection to the Inductor. This pin swings from VIN to GND", 5 GND (power) "Main Ground. Connect to the (-) terminal of COUT, and (-) terminal of CIN.", 6 MODE/SYNC (in) "Combination Mode Selection and Oscillator Synchronization. This pin controls the operation of the device. When tied to VIN or GND, Burst Mode operation or pulse skipping mode is selected, respectively. Do not float this pin. (See Datasheet)", 7 SW2 (power) "Regulator 2 Switch Node Connection to the Inductor. This pin swings from VIN to GND.", 8 ~{POR} (oc) "Power-On Reset. This common-drain logic output is pulled to GND when the output voltage is not within +/-8.5% of regulation and goes high after 2^16 clock cycles when both channels are within regulation.", 9 RUN/SS2 (in) "Regulator 2 Enable and Soft-Start Input. Forcing this pin to VIN enables regulator 2, while forcing it to GND causes regulator 2 to shut down. Connect external RC-Network with desired time-constant to enable softstart (See Datasheet)", 10 VFB2 (in) "Output Feedback. Receives the feedback voltage from the external resistive divider across the output. Nominal voltage for this pin is 0.6V.", 11 EP (power) "Power Ground. Connect to the (-) terminal of COUT, and (-) terminal of CIN. Must be soldered to electrical ground on PCB."

## LTC3407AIDD-2#PBF
designator U?
Dual Synchronous 800 mA, 2.25 MHz Step-Down DC/DC Regulator, 10-pin SON (DD-10), -40 to 125 degC, Pb-Free; Manufacturer: Linear Technology; PartNumber: LTC3407AIDD-2#PBF; Number of Outputs: 2; PackageVersion: Rev. C, 06/2010; PackageReference: DD-10; PackageDescription: 10-Pin Plastic DFN, Body 3 x 3 mm, Pitch 0.5 mm; Supplier 1: Digi-Key; Supplier Part Number 1: LTC3407AIDD-2#PBF-ND; Supplier 2: Newark; Supplier Part Number 2: 56M7589; RoHS: TRUE; Mounting Technology: Surface Mount; Code_JEDEC: MO-229; ComponentLink1Description: Manufacturer URL; ComponentLink1URL: http://www.linear.com/; ComponentLink2Description: Datasheet; ComponentLink2URL: http://cds.linear.com/docs/en/datasheet/3407a2f.pdf; ComponentLink3Description: Package Specification; ComponentLink3URL: http://cds.linear.com/docs/en/packaging/DFN_10_05-08-1699.pdf
footprint LT-DD-10_V (SON, 10-Leads, Body 3x3mm, Pitch 0.5mm, Thermal Pad 2.38x1.65mm)
pins: 1 VFB1 (in) "Output Feedback. Receives the feedback voltage from the external resistive divider across the output. Nominal voltage for this pin is 0.6V.", 2 RUN/SS1 (in) "Regulator 1 Enable and Soft-Start Input. Forcing this pin to VIN enables regulator 1, while forcing it to GND causes regulator 1 to shut down. Connect external RC-network with desired time-constant to enable softstart (See Datasheet)", 3 VIN (power) "Main Power Supply. Must be closely decoupled to GND.", 4 SW1 (power) "Regulator 1 Switch Node Connection to the Inductor. This pin swings from VIN to GND", 5 GND (power) "Main Ground. Connect to the (-) terminal of COUT, and (-) terminal of CIN.", 6 MODE/SYNC (in) "Combination Mode Selection and Oscillator Synchronization. This pin controls the operation of the device. When tied to VIN or GND, Burst Mode operation or pulse skipping mode is selected, respectively. Do not float this pin. (See Datasheet)", 7 SW2 (power) "Regulator 2 Switch Node Connection to the Inductor. This pin swings from VIN to GND.", 8 ~{POR} (oc) "Power-On Reset. This common-drain logic output is pulled to GND when the output voltage is not within +/-8.5% of regulation and goes high after 2^16 clock cycles when both channels are within regulation.", 9 RUN/SS2 (in) "Regulator 2 Enable and Soft-Start Input. Forcing this pin to VIN enables regulator 2, while forcing it to GND causes regulator 2 to shut down. Connect external RC-Network with desired time-constant to enable softstart (See Datasheet)", 10 VFB2 (in) "Output Feedback. Receives the feedback voltage from the external resistive divider across the output. Nominal voltage for this pin is 0.6V.", 11 EP (power) "Power Ground. Connect to the (-) terminal of COUT, and (-) terminal of CIN. Must be soldered to electrical ground on PCB."

## LTC3407AIDD-2#TR
designator U?
Dual Synchronous 800 mA, 2.25 MHz Step-Down DC/DC Regulator, 10-pin SON (DD-10), -40 to 125 degC, Tape and Reel; Manufacturer: Linear Technology; PartNumber: LTC3407AIDD-2#TR; Number of Outputs: 2; PackageVersion: Rev. C, 06/2010; PackageReference: DD-10; PackageDescription: 10-Pin Plastic DFN, Body 3 x 3 mm, Pitch 0.5 mm; Packing: Tape and Reel; RoHS: FALSE; Mounting Technology: Surface Mount; Code_JEDEC: MO-229; ComponentLink1Description: Manufacturer URL; ComponentLink1URL: http://www.linear.com/; ComponentLink2Description: Datasheet; ComponentLink2URL: http://cds.linear.com/docs/en/datasheet/3407a2f.pdf; ComponentLink3Description: Package Specification; ComponentLink3URL: http://cds.linear.com/docs/en/packaging/DFN_10_05-08-1699.pdf
footprint LT-DD-10_V (SON, 10-Leads, Body 3x3mm, Pitch 0.5mm, Thermal Pad 2.38x1.65mm)
pins: 1 VFB1 (in) "Output Feedback. Receives the feedback voltage from the external resistive divider across the output. Nominal voltage for this pin is 0.6V.", 2 RUN/SS1 (in) "Regulator 1 Enable and Soft-Start Input. Forcing this pin to VIN enables regulator 1, while forcing it to GND causes regulator 1 to shut down. Connect external RC-network with desired time-constant to enable softstart (See Datasheet)", 3 VIN (power) "Main Power Supply. Must be closely decoupled to GND.", 4 SW1 (power) "Regulator 1 Switch Node Connection to the Inductor. This pin swings from VIN to GND", 5 GND (power) "Main Ground. Connect to the (-) terminal of COUT, and (-) terminal of CIN.", 6 MODE/SYNC (in) "Combination Mode Selection and Oscillator Synchronization. This pin controls the operation of the device. When tied to VIN or GND, Burst Mode operation or pulse skipping mode is selected, respectively. Do not float this pin. (See Datasheet)", 7 SW2 (power) "Regulator 2 Switch Node Connection to the Inductor. This pin swings from VIN to GND.", 8 ~{POR} (oc) "Power-On Reset. This common-drain logic output is pulled to GND when the output voltage is not within +/-8.5% of regulation and goes high after 2^16 clock cycles when both channels are within regulation.", 9 RUN/SS2 (in) "Regulator 2 Enable and Soft-Start Input. Forcing this pin to VIN enables regulator 2, while forcing it to GND causes regulator 2 to shut down. Connect external RC-Network with desired time-constant to enable softstart (See Datasheet)", 10 VFB2 (in) "Output Feedback. Receives the feedback voltage from the external resistive divider across the output. Nominal voltage for this pin is 0.6V.", 11 EP (power) "Power Ground. Connect to the (-) terminal of COUT, and (-) terminal of CIN. Must be soldered to electrical ground on PCB."